# Altium schematic symbol library BSZ040N04LS G.SchLib: 1 symbol
Pins are listed as number, name and electrical type; pins without a type are passive.

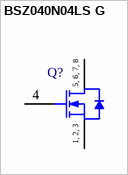
[diagram p0: symbol BSZ040N04LS G]

## BSZ040N04LS G
designator Q?
N-Channel OptiMOS 3 Power-Transistor, 40 V VDS, 40 A ID, -55 to 150 degC, PG-TSDSON-8-1, Reel, Green; Manufacturer: Infineon; PartNumber: BSZ040N04LS G; Green: TRUE; ID (max): 40 A; IDpuls (max): 160 A; Polarity: N; Ptot (max): 69 W; QG: 48 nC; RDS (on) (max): 4 mOhm; RDS (on) (max) (@4.5V): 5.6 mOhm; Rth: 1.8 K/W; RthJA (max): 60 K/W; VDS (max): 40 V; VGS(th) (max): 2 V; VGS(th) (min): 1.2 V; DatasheetVersion: Rev. 1.3; PackageVersion: Rev. 01, 03/2007; PackageReference: PG-TSDSON-8-1; PackageDescription: 8-Pin Plastic (Green) Thin Dual Small Outline Non-Leaded Package, 3.3 x 3.3 mm Body, 0.65 mm Pitch; Supplier 1: Digi-Key; Supplier Part Number 1: BSZ040N04LSGINTR-ND; Supplier 2: Digi-Key; Supplier Part Number 2: BSZ040N04LSGINCT-ND; Supplier 3: Digi-Key; Supplier Part Number 3: BSZ040N04LSGINDKR-ND; Supplier 4: Mouser; Supplier Part Number 4: 726-BSZ040N04LSG; Halogen-free: TRUE; Packing: Reel; RthJC (max): 1.8 K/W; Mounting Technology: Surface Mount; ComponentLink1Description: Manufacturer URL; ComponentLink1URL: http://www.infineon.com/; ComponentLink2Description: Datasheet; ComponentLink2URL: http://www.infineon.com/dgdl/BSZ040N04LSG_rev1.3_.pdf?folderId=db3a3043163797a6011643468e7505a4&fileId=db3a3043163797a6011643b9e30f067b; ComponentLink3Description: Package Specification; ComponentLink3URL: http://www.infineon.com/dgdl/BSZ100N06LS3_rev2.3.pdf?folderId=db3a30431ddc9372011ebafa04517f8b&fileId=db3a30431ddc9372011ebb132c97000a
footprint INF-PG-TSDSON-8-1_A_V (TSDSON, 8-Leads, Body 3.3x3.3mm, Pitch 0.65mm)
pins: 1 SOURCE, 2 SOURCE, 3 SOURCE, 4 GATE, 5 DRAIN, 6 DRAIN, 7 DRAIN, 8 DRAIN
text: 5, 6, 7, 8; 1, 2, 3